# Altium footprint library pot.PCBLIB: 55 footprints (part 2 of 4)
Each footprint in its own frame and in the unit in brackets; x right, y up, seen from the top. Pads: shape width x height; smd on the part's side, far side on the other; paste and mask are expansions set on the pad; w line width, h text height; cw(c..) or ccw(c..) is an arc to the next point about the centre after c.
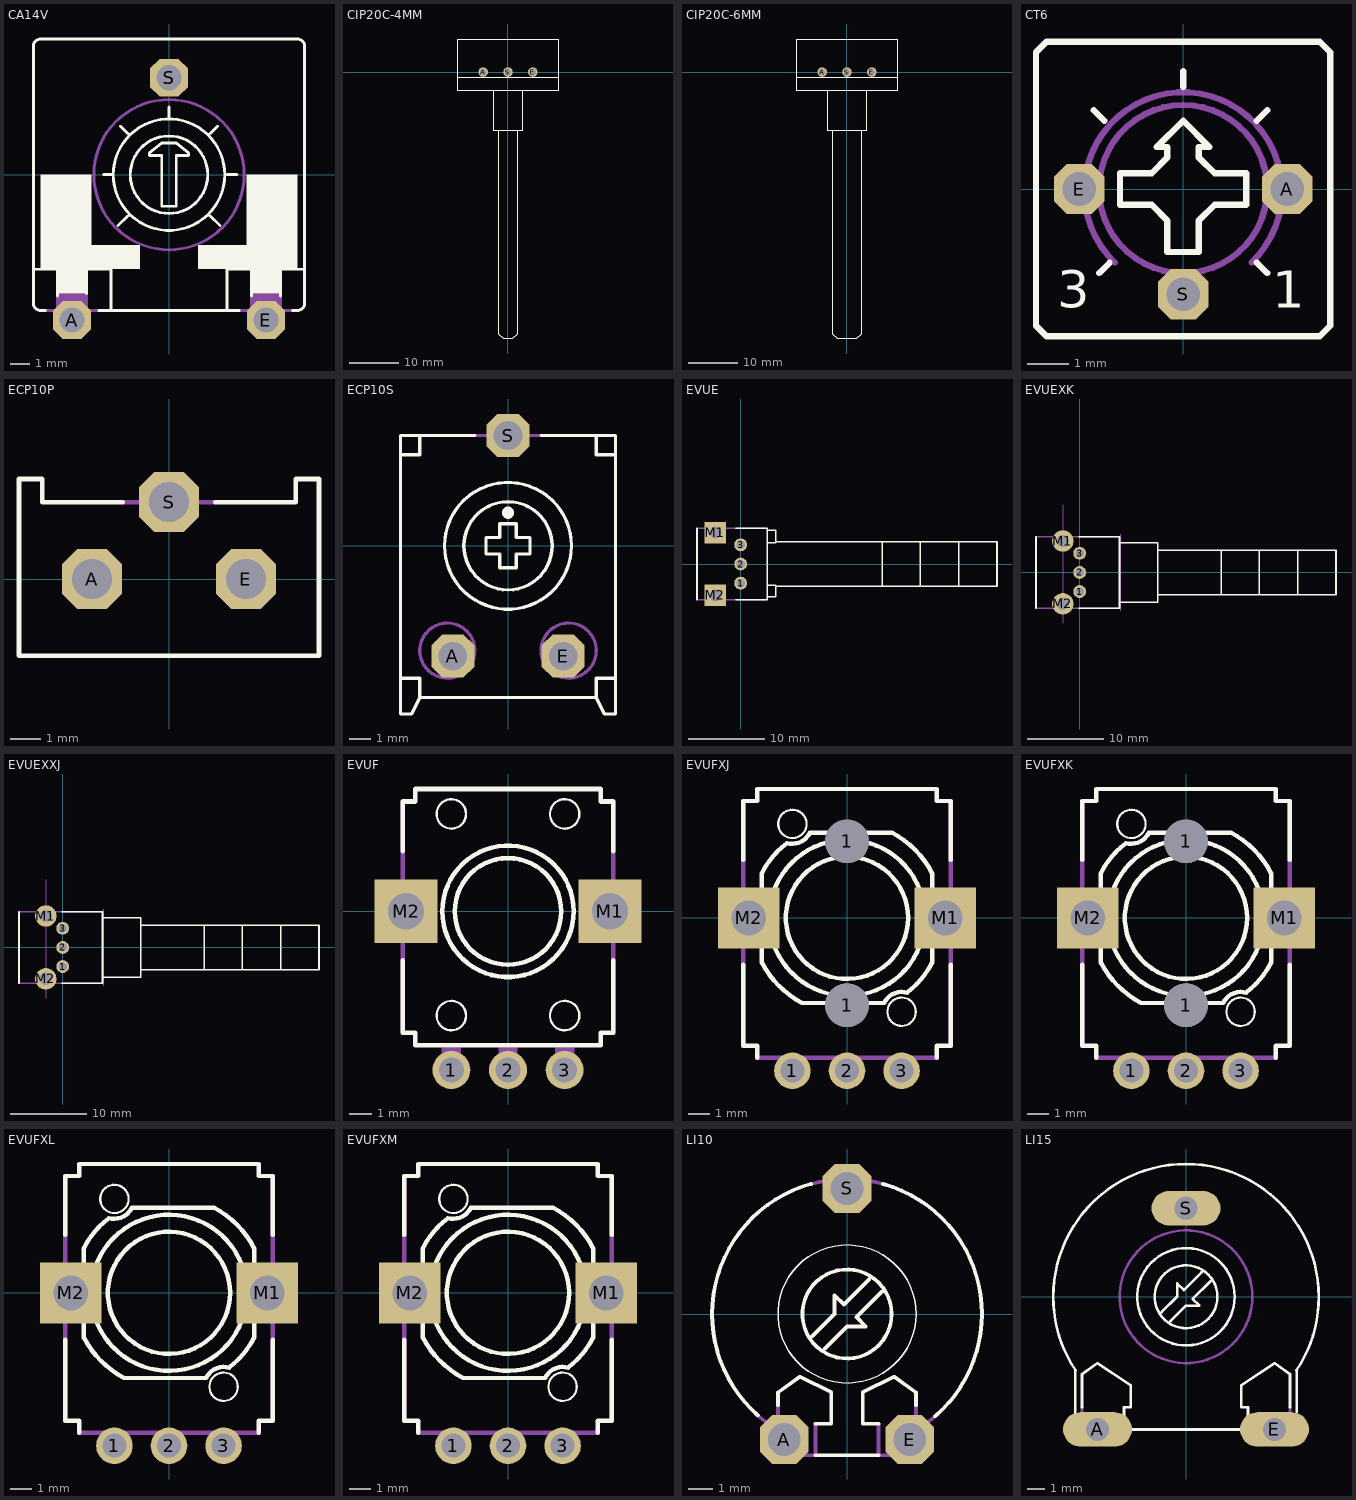
[diagram p1: the footprints below, top view; thin cyan lines are the x and y axes]

## CA14V [mil]
pads (3):
  oct 78x78 hole 52: A(-200,-300) E(200,-300) S(0,200)
Top Overlay:
  circle w6: c0,0 r80
  circle w6: c0,0 r115
  rectangle: 170,-245 230,-195
  rectangle: 60,-195 265,-145
  rectangle: 160,-145 265,0
  rectangle: -230,-245 -170,-195
  rectangle: -265,-195 -60,-145
  rectangle: -265,-145 -160,0
  lines w6: -255,-280 -265,-280 cw(c-265,-265) -280,-265 -280,-195 ; -230,-250 -230,-195 -280,-195 ; -170,-245 -170,-195 -120,-195 -120,-280 ; -145,-280 -120,-280 ; -135,0 -115,0 ; -105,-105 -85,-85 ; -100,100 -85,85 ; 0,120 0,140 ; 85,-85 105,-105 ; 85,85 100,100 ; 120,0 140,0 ; 145,-280 120,-280 ; 170,-250 170,-195 120,-195 120,-280 ; 230,-250 230,-195 280,-195 ; 255,-280 265,-280 ccw(c265,-265) 280,-265 280,-195 ; -280,-195 -280,265 cw(c-265,265) -265,280 265,280 cw(c265,265) 280,265 280,-195 ; -120,-280 120,-280 ; -40,40 -15,40 -15,-65 15,-65 15,40 40,40 40,45 15,65 -15,65 -40,45 -40,40
Mechanical 16:
  circle w6: c0,0 r155
  rectangle: 170,-280 230,-245
  rectangle: -230,-280 -170,-245
  rectangle: 170,-310 230,-280
  rectangle: -230,-310 -170,-280
  lines w6: -255,-280 -145,-280 ; -230,-275 -230,-245 ; -170,-275 -170,-245 ; 145,-280 170,-280 ; 170,-250 170,-280 ; 230,-250 230,-280 ; 255,-280 230,-280 ; 170,-280 230,-280

## CIP20C-4MM [mil]
pads (3):
  round 76 hole 51.18: A(-196.85,0) E(196.85,0) S(0,0)
Top Overlay:
  lines w8: -114.17,-152.56 -114.17,-464.57 114.17,-464.57 114.17,-153.54 ; -74.8,-467.52 -74.8,-2078.74 -35.43,-2118.11 35.43,-2118.11 74.8,-2078.74 74.8,-468.5 ; -397.64,-44.29 -397.64,262.8 397.64,262.8 397.64,-44.29 ; -397.64,-44.29 -397.64,-149.61 397.64,-149.61 397.64,-44.29 ; -397.64,-44.29 397.64,-44.29

## CIP20C-6MM [mil]
pads (3):
  round 76 hole 51.18: A(-196.85,0) E(196.85,0) S(0,0)
Top Overlay:
  lines w8: -153.54,-152.56 -153.54,-464.57 153.54,-464.57 153.54,-153.54 ; -114.17,-467.52 -114.17,-2078.74 -74.8,-2118.11 74.8,-2118.11 114.17,-2078.74 114.17,-466.54 ; -397.64,-44.29 -397.64,262.8 397.64,262.8 397.64,-44.29 ; -397.64,-44.29 -397.64,-149.61 397.64,-149.61 397.64,-44.29 ; -397.64,-44.29 397.64,-44.29

## CT6 [mil]
pads (3):
  oct 48x48 hole 32: A(99,0) E(-99,0) S(0,-100)
Top Overlay:
  lines w6: -85,75 -75,65 ; -80,-80 -70,-70 ; 0,97 0,112 ; 70,-70 80,-80 ; 70,65 80,75 ; -140,-130 -130,-140 130,-140 140,-130 140,130 130,140 -130,140 -140,130 -140,-130 ; -60,-15 -60,15 -30,15 -15,30 -15,40 -25,40 0,65 25,40 15,40 15,30 30,15 60,15 60,-15 30,-15 15,-30 15,-60 -15,-60 -15,-30 -30,-15 -60,-15
  text "3" at -120,-125 h60.45
  text "1" at 85,-125 h60.45
Mechanical 16:
  circle w6: c0,0 r80
  lines w6: -114,0 -99,0 ; -65,-70 cw(c0,-2) 65,-70 ; 99,0 114,0

## ECP10P [mil]
pads (3):
  oct 78x78 hole 52: A(-100,0) E(100,0) S(0,100)
Top Overlay:
  lines w6: -60,100 -165,100 -165,130 -195,130 -195,-100 195,-100 195,130 165,130 165,100 60,100
Mechanical 16:
  rectangle: -20,100 20,110
  lines w6: -60,100 60,100

## ECP10S [mil]
pads (3):
  oct 78x78 hole 52: A(-100,-200) E(100,-200) S(0,200)
Top Overlay:
  circle w6: c0,0 r80
  circle w12: c0,60 r5
  circle w6: c0,0 r115
  lines w6: -60,200 -160,200 ; 60,200 160,200 ; -195,-240 -195,165 ; -195,-240 -160,-240 -160,-275 ; -195,-240 -195,-305 -175,-305 -160,-275 ; -195,165 -195,200 -160,200 ; -195,165 -160,165 -160,200 ; -160,-275 160,-275 ; 160,-275 160,-240 195,-240 ; 160,-275 175,-305 195,-305 195,-240 ; 160,200 195,200 195,165 ; 160,200 160,165 195,165 ; 195,-240 195,165 ; -40,-15 -15,-15 -15,-40 15,-40 15,-15 40,-15 40,15 15,15 15,40 -15,40 -15,15 -40,15 -40,-15
Mechanical 16:
  circle w6: c-110,-190 r50
  circle w6: c110,-190 r50
  rectangle: -20,200 20,215
  lines w6: -60,200 60,200

## EVUE [mil]
pads (5):
  round 66 hole 43.31: 1(0,-98.43) 2(0,0) 3(0,98.43)
  rect 110.24x110.24 hole 62.99: M1(-129.92,161.42) M2(-129.92,-161.42)
Top Overlay:
  lines w8: -224.41,-183.07 -224.41,183.07 ; -24.41,-183.07 135.83,-183.07 135.83,183.07 -24.41,183.07 ; 139.76,-169.29 179.13,-169.29 179.13,-110.24 139.76,-110.24 ; 139.76,110.24 179.13,110.24 179.13,173.23 139.76,173.23 ; 183.07,-114.17 726.38,-114.17 726.38,114.17 ; 183.07,114.17 726.38,114.17 ; 730.32,-114.17 923.23,-114.17 923.23,114.17 ; 927.17,-114.17 1120.08,-114.17 1120.08,114.17 ; 1124.02,-114.17 1316.93,-114.17 1316.93,114.17 1120.08,114.17 ; 726.38,114.17 923.23,114.17 ; 923.23,114.17 1120.08,114.17
Mechanical 11:
  lines w0: -171.26,-192.91 -88.58,-192.91 -88.58,-129.92 -171.26,-129.92 -171.26,-192.91 ; -171.26,129.92 -88.58,129.92 -88.58,192.91 -171.26,192.91 -171.26,129.92
Mechanical 16:
  lines w8: -224.41,-183.07 135.83,-183.07 ; -224.41,183.07 135.83,183.07

## EVUEXK [mil]
pads (5):
  round 66 hole 43.31: 1(0,-98.43) 2(0,0) 3(0,98.43)
  round 110.24 hole 62.99: M1(-86.61,161.42) M2(-86.61,-161.42)
Top Overlay:
  lines w8: -224.41,-183.07 -224.41,183.07 ; -4.72,-183.07 204.72,-183.07 204.72,183.07 -4.72,183.07 ; 208.66,-153.54 401.57,-153.54 401.57,153.54 208.66,153.54 ; 405.51,-114.17 726.38,-114.17 726.38,114.17 ; 405.51,114.17 726.38,114.17 ; 730.32,-114.17 923.23,-114.17 923.23,114.17 ; 927.17,-114.17 1120.08,-114.17 1120.08,114.17 ; 1124.02,-114.17 1316.93,-114.17 1316.93,114.17 1120.08,114.17 ; 726.38,114.17 923.23,114.17 ; 923.23,114.17 1120.08,114.17
Mechanical 1:
  lines w0: 208.66,-196.85 208.66,196.85
Mechanical 11:
  lines w0: -127.95,-192.91 -45.28,-192.91 -45.28,-129.92 -127.95,-129.92 -127.95,-192.91 ; -127.95,129.92 -45.28,129.92 -45.28,192.91 -127.95,192.91 -127.95,129.92
Mechanical 16:
  lines w0: -86.61,-259.84 -86.61,346.46
  lines w8: -224.41,-183.07 204.72,-183.07 ; -224.41,183.07 204.72,183.07

## EVUEXXJ [mil]
pads (5):
  round 66 hole 43.31: 1(0,-98.43) 2(0,0) 3(0,98.43)
  round 110.24 hole 62.99: M1(-86.61,161.42) M2(-86.61,-161.42)
Top Overlay:
  lines w8: -224.41,-183.07 -224.41,183.07 ; -4.72,-183.07 204.72,-183.07 204.72,183.07 -4.72,183.07 ; 208.66,-153.54 401.57,-153.54 401.57,153.54 208.66,153.54 ; 405.51,-114.17 726.38,-114.17 726.38,114.17 ; 405.51,114.17 726.38,114.17 ; 730.32,-114.17 923.23,-114.17 923.23,114.17 ; 927.17,-114.17 1120.08,-114.17 1120.08,114.17 ; 1124.02,-114.17 1316.93,-114.17 1316.93,114.17 1120.08,114.17 ; 726.38,114.17 923.23,114.17 ; 923.23,114.17 1120.08,114.17
Mechanical 1:
  lines w0: 208.66,-196.85 208.66,196.85
Mechanical 11:
  lines w0: -127.95,-192.91 -45.28,-192.91 -45.28,-129.92 -127.95,-129.92 -127.95,-192.91 ; -127.95,129.92 -45.28,129.92 -45.28,192.91 -127.95,192.91 -127.95,129.92
Mechanical 16:
  lines w0: -86.61,-259.84 -86.61,346.46
  lines w8: -224.41,-183.07 204.72,-183.07 ; -224.41,183.07 204.72,183.07

## EVUF [mil]
pads (5):
  round 66 hole 43.31: 1(-98.43,-275.59) 2(0,-275.59) 3(98.43,-275.59)
  rect 110.24x110.24 hole 62.99: M1(177.17,0) M2(-177.17,0)
Top Overlay:
  circle w4: c-98.43,-181.1 r25.59
  circle w4: c98.43,-181.1 r25.59
  circle w4: c-98.43,169.29 r25.59
  circle w4: c98.43,169.29 r25.59
  circle w8: c0,0 r114.17
  circle w8: c0,0 r92.52
  lines w8: -183.07,-84.65 -183.07,-210.63 -161.42,-210.63 -161.42,-232.28 161.42,-232.28 161.42,-210.63 183.07,-210.63 183.07,-84.65 ; -183.07,104.33 -183.07,190.94 -161.42,190.94 -161.42,212.6 161.42,212.6 161.42,190.94 183.07,190.94 183.07,104.33
Mechanical 11:
  lines w0: -208.66,-41.34 -208.66,41.34 -145.67,41.34 -145.67,-41.34 -208.66,-41.34 ; 145.67,-41.34 145.67,41.34 208.66,41.34 208.66,-41.34 145.67,-41.34
Mechanical 16:
  rectangle: -115.16,-288.39 -81.69,-236.22
  rectangle: -16.73,-288.39 16.73,-236.22
  rectangle: 81.69,-288.39 115.16,-236.22
  lines w8: -187.01,-35.43 -216.54,-35.43 -216.54,35.43 -187.01,35.43 ; -183.07,-210.63 -183.07,190.94 ; 183.07,-210.63 183.07,190.94 ; 187.01,-35.43 216.54,-35.43 216.54,35.43 187.01,35.43

## EVUFXJ [mm]
pads (7):
  round 1.676 hole 1.1: 1(-2.5,-7) 2(0,-7) 3(2.5,-7)
  round 2 hole 2: 1(0,-4) 1(0,3.5)
  rect 2.8x2.8 hole 1.6: M1(4.5,0) M2(-4.5,0)
Top Overlay:
  circle w0.102: c-2.5,4.3 r0.65
  circle w0.203: c0,0 r3.575
  circle w0.203: c0,0 r2.8
  circle w0.102: c2.5,-4.3 r0.65
  lines w0.203: -4.75,-2.15 -4.75,-5.85 -4.1,-5.85 -4.1,-6.4 ; -4.75,2.65 -4.75,5.35 -4.1,5.35 -4.1,5.9 4.1,5.9 4.1,5.35 4.75,5.35 4.75,2.65 ; 4.1,-6.4 4.1,-5.85 4.75,-5.85 4.75,-2.15 ; -3.9,-2.05 -3.9,2.05 cw(c-0.311,0.217) -2.75,3.425 ccw(c-2.508,4.287) -1.7,3.9 2.05,3.9 cw(c0,0) 3.9,2.05 3.9,-2.05 cw(c0.311,-0.217) 2.75,-3.425 ccw(c2.508,-4.287) 1.7,-3.9 -2.05,-3.9 cw(c0,0) -3.9,-2.05
Mechanical 11:
  lines w0: -5.3,-1.05 -5.3,1.05 -3.7,1.05 -3.7,-1.05 -5.3,-1.05 ; 3.7,-1.05 3.7,1.05 5.3,1.05 5.3,-1.05 3.7,-1.05
Mechanical 16:
  rectangle: -2.925,-7.325 -2.075,-6.5
  rectangle: -0.425,-7.325 0.425,-6.5
  rectangle: 2.075,-7.325 2.925,-6.5
  lines w0.203: -4.85,-0.9 -5.5,-0.9 -5.5,0.9 -4.85,0.9 ; -4.75,-5.85 -4.75,5.35 ; -4.1,-6.4 4.1,-6.4 ; 4.75,-5.85 4.75,5.35 ; 4.85,-0.9 5.5,-0.9 5.5,0.9 4.85,0.9

## EVUFXK [mm]
pads (7):
  round 1.676 hole 1.1: 1(-2.5,-7) 2(0,-7) 3(2.5,-7)
  round 2 hole 2: 1(0,-4) 1(0,3.5)
  rect 2.8x2.8 hole 1.6: M1(4.5,0) M2(-4.5,0)
Top Overlay:
  circle w0.102: c-2.5,4.3 r0.65
  circle w0.203: c0,0 r3.575
  circle w0.203: c0,0 r2.8
  circle w0.102: c2.5,-4.3 r0.65
  lines w0.203: -4.75,-2.15 -4.75,-5.85 -4.1,-5.85 -4.1,-6.4 ; -4.75,2.65 -4.75,5.35 -4.1,5.35 -4.1,5.9 4.1,5.9 4.1,5.35 4.75,5.35 4.75,2.65 ; 4.1,-6.4 4.1,-5.85 4.75,-5.85 4.75,-2.15 ; -3.9,-2.05 -3.9,2.05 cw(c-0.311,0.217) -2.75,3.425 ccw(c-2.508,4.287) -1.7,3.9 2.05,3.9 cw(c0,0) 3.9,2.05 3.9,-2.05 cw(c0.311,-0.217) 2.75,-3.425 ccw(c2.508,-4.287) 1.7,-3.9 -2.05,-3.9 cw(c0,0) -3.9,-2.05
Mechanical 11:
  lines w0: -5.3,-1.05 -5.3,1.05 -3.7,1.05 -3.7,-1.05 -5.3,-1.05 ; 3.7,-1.05 3.7,1.05 5.3,1.05 5.3,-1.05 3.7,-1.05
Mechanical 16:
  rectangle: -2.925,-7.325 -2.075,-6.5
  rectangle: -0.425,-7.325 0.425,-6.5
  rectangle: 2.075,-7.325 2.925,-6.5
  lines w0.203: -4.85,-0.9 -5.5,-0.9 -5.5,0.9 -4.85,0.9 ; -4.75,-5.85 -4.75,5.35 ; -4.1,-6.4 4.1,-6.4 ; 4.75,-5.85 4.75,5.35 ; 4.85,-0.9 5.5,-0.9 5.5,0.9 4.85,0.9

## EVUFXL [mil]
pads (5):
  round 66 hole 43.31: 1(-98.43,-275.59) 2(0,-275.59) 3(98.43,-275.59)
  rect 110.24x110.24 hole 62.99: M1(177.17,0) M2(-177.17,0)
Top Overlay:
  circle w4: c-98.43,169.29 r25.59
  circle w8: c0,0 r140.75
  circle w8: c0,0 r110.24
  circle w4: c98.43,-169.29 r25.59
  lines w8: -187.01,-84.65 -187.01,-230.32 -161.42,-230.32 -161.42,-251.97 ; -187.01,104.33 -187.01,210.63 -161.42,210.63 -161.42,232.28 161.42,232.28 161.42,210.63 187.01,210.63 187.01,104.33 ; 161.42,-251.97 161.42,-230.32 187.01,-230.32 187.01,-84.65 ; -153.54,-80.71 -153.54,80.71 cw(c-12.25,8.54) -108.27,134.84 ccw(c-98.73,168.8) -66.93,153.54 80.71,153.54 cw(c0.01,0.01) 153.54,80.71 153.54,-80.71 cw(c12.25,-8.54) 108.27,-134.84 ccw(c98.73,-168.8) 66.93,-153.54 -80.71,-153.54 cw(c-0.01,-0.01) -153.54,-80.71
Mechanical 11:
  lines w0: -208.66,-41.34 -208.66,41.34 -145.67,41.34 -145.67,-41.34 -208.66,-41.34 ; 145.67,-41.34 145.67,41.34 208.66,41.34 208.66,-41.34 145.67,-41.34
Mechanical 16:
  rectangle: -115.16,-288.39 -81.69,-255.91
  rectangle: -16.73,-288.39 16.73,-255.91
  rectangle: 81.69,-288.39 115.16,-255.91
  lines w8: -190.94,-35.43 -216.54,-35.43 -216.54,35.43 -190.94,35.43 ; -187.01,-230.32 -187.01,210.63 ; -161.42,-251.97 161.42,-251.97 ; 187.01,-230.32 187.01,210.63 ; 190.94,-35.43 216.54,-35.43 216.54,35.43 190.94,35.43

## EVUFXM [mil]
pads (5):
  round 66 hole 43.31: 1(-98.43,-275.59) 2(0,-275.59) 3(98.43,-275.59)
  rect 110.24x110.24 hole 62.99: M1(177.17,0) M2(-177.17,0)
Top Overlay:
  circle w4: c-98.43,169.29 r25.59
  circle w8: c0,0 r140.75
  circle w8: c0,0 r110.24
  circle w4: c98.43,-169.29 r25.59
  lines w8: -187.01,-84.65 -187.01,-230.32 -161.42,-230.32 -161.42,-251.97 ; -187.01,104.33 -187.01,210.63 -161.42,210.63 -161.42,232.28 161.42,232.28 161.42,210.63 187.01,210.63 187.01,104.33 ; 161.42,-251.97 161.42,-230.32 187.01,-230.32 187.01,-84.65 ; -153.54,-80.71 -153.54,80.71 cw(c-12.25,8.54) -108.27,134.84 ccw(c-98.73,168.8) -66.93,153.54 80.71,153.54 cw(c0.01,0.01) 153.54,80.71 153.54,-80.71 cw(c12.25,-8.54) 108.27,-134.84 ccw(c98.73,-168.8) 66.93,-153.54 -80.71,-153.54 cw(c-0.01,-0.01) -153.54,-80.71
Mechanical 11:
  lines w0: -208.66,-41.34 -208.66,41.34 -145.67,41.34 -145.67,-41.34 -208.66,-41.34 ; 145.67,-41.34 145.67,41.34 208.66,41.34 208.66,-41.34 145.67,-41.34
Mechanical 16:
  rectangle: -115.16,-288.39 -81.69,-255.91
  rectangle: -16.73,-288.39 16.73,-255.91
  rectangle: 81.69,-288.39 115.16,-255.91
  lines w8: -190.94,-35.43 -216.54,-35.43 -216.54,35.43 -190.94,35.43 ; -187.01,-230.32 -187.01,210.63 ; -161.42,-251.97 161.42,-251.97 ; 187.01,-230.32 187.01,210.63 ; 190.94,-35.43 216.54,-35.43 216.54,35.43 190.94,35.43

## LI10 [mil]
pads (3):
  oct 78x78 hole 52: A(-100,-200) E(100,-200) S(0,200)
Top Overlay:
  circle w6: c0,0 r71
  circle w2: c0,0 r110
  lines w6: -141.93,-161.5 cw(c0,-0.01) -215,0 cw(c0,0) -57.01,207.3 ; -110,-145 -110,-125 -75,-100 -25,-125 -25,-175 -50,-175 ; -55,-35 -20,0 -20,30 -5,15 35,55 ; -50,-225 50,-225 ; -35,-55 0,-20 30,-20 15,-5 55,35 ; 50,-175 25,-175 25,-125 75,-100 110,-125 110,-145 ; 57.54,207.16 cw(c0,0) 215,0 cw(c0,0) 140.38,-162.84
Mechanical 16:
  lines w6: -145,-160 -125,-175 -125,-225 -110,-225 ; -110,-145 -110,-225 ; -58.36,206.93 cw(c-0.01,0.01) 0,215 cw(c-0.01,0.01) 59.78,206.52 ; -50,-175 -50,-225 -110,-225 ; 50,-175 50,-225 110,-225 ; 110,-145 110,-225 ; 145,-160 125,-175 125,-225 110,-225

## LI15 [mil]
pads (3):
  oval 156x78 hole 52: A(-200,-300) E(200,-300) S(0,200)
Top Overlay:
  circle w6: c0,0 r71
  circle w6: c0,0 r110
  lines w6: -250,-265 -250,-165 ; -249.61,-166.41 cw(c0,0.01) -300,0 cw(c0,0) 300,0 cw(c0,0.01) 249.61,-166.41 ; -235,-250 -235,-175 -200,-150 -125,-200 -125,-250 -140,-250 -140,-300 140,-300 140,-250 125,-250 125,-200 200,-150 235,-175 235,-250 ; -55,-35 -20,0 -20,30 -5,15 35,55 ; -35,-55 0,-20 30,-20 15,-5 55,35 ; 250,-260 250,-165
Mechanical 16:
  circle w6: c0,0 r150
  lines w6: -250,-265 -250,-300 -235,-300 ; -235,-250 -235,-300 ; -140,-300 -235,-300 ; 140,-300 235,-300 ; 235,-250 235,-300 ; 250,-260 250,-300 235,-300